# EAGLE library part TC7662B (library CostumHafiz)
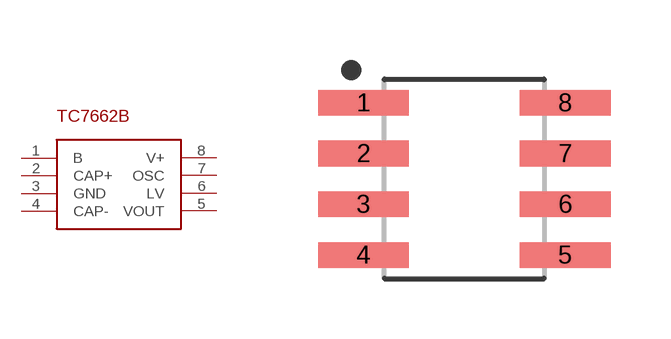
[diagram p1: symbol with the pads of SOIC127P599X175-8; footprint SOIC127P599X175-8]

Designator prefix -

## TC7662B  [SOIC127P599X175-8]
1  B
2  CAP+
3  GND
4  CAP-
5  VOUT
6  LV
7  OSC
8  V+

## Footprint SOIC127P599X175-8 (pad centres in mm)
8-SOIC, 1.27 mm pitch, 6.00 mm span, 4.90 X 3.90 X 1.75 mm body 8-pin SOIC package with 1.27 mm pitch, 6.00 mm span with body size 4.90 X 3.90 X 1.75 mm
smd 2.272 x 0.642: 1 -2.522,1.905; 2 -2.522,0.635; 3 -2.522,-0.635; 4 -2.522,-1.905; 5 2.522,-1.905; 6 2.522,-0.635; 7 2.522,0.635; 8 2.522,1.905